# Altium schematic symbol library NEON-9.SchLib: 1 symbol
Pins are listed as number, name and electrical type; pins without a type are passive.

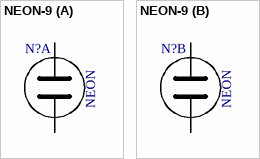
[diagram p0: symbol NEON-9]

## NEON-9
designator N?, comment NEON
Neon Tube; Supplier 1: TME; Supplier Part Number 1: NEON-9
footprint NEON-9
part A pins: 1, 2
part B pins: 2, 3